# Altium footprint library V2_wearable.PcbLib: 59 footprints (part 1 of 4)
Each footprint in its own frame and in the unit in brackets; x right, y up, seen from the top. Pads: shape width x height; smd on the part's side, far side on the other; paste and mask are expansions set on the pad; w line width, h text height; cw(c..) or ccw(c..) is an arc to the next point about the centre after c.
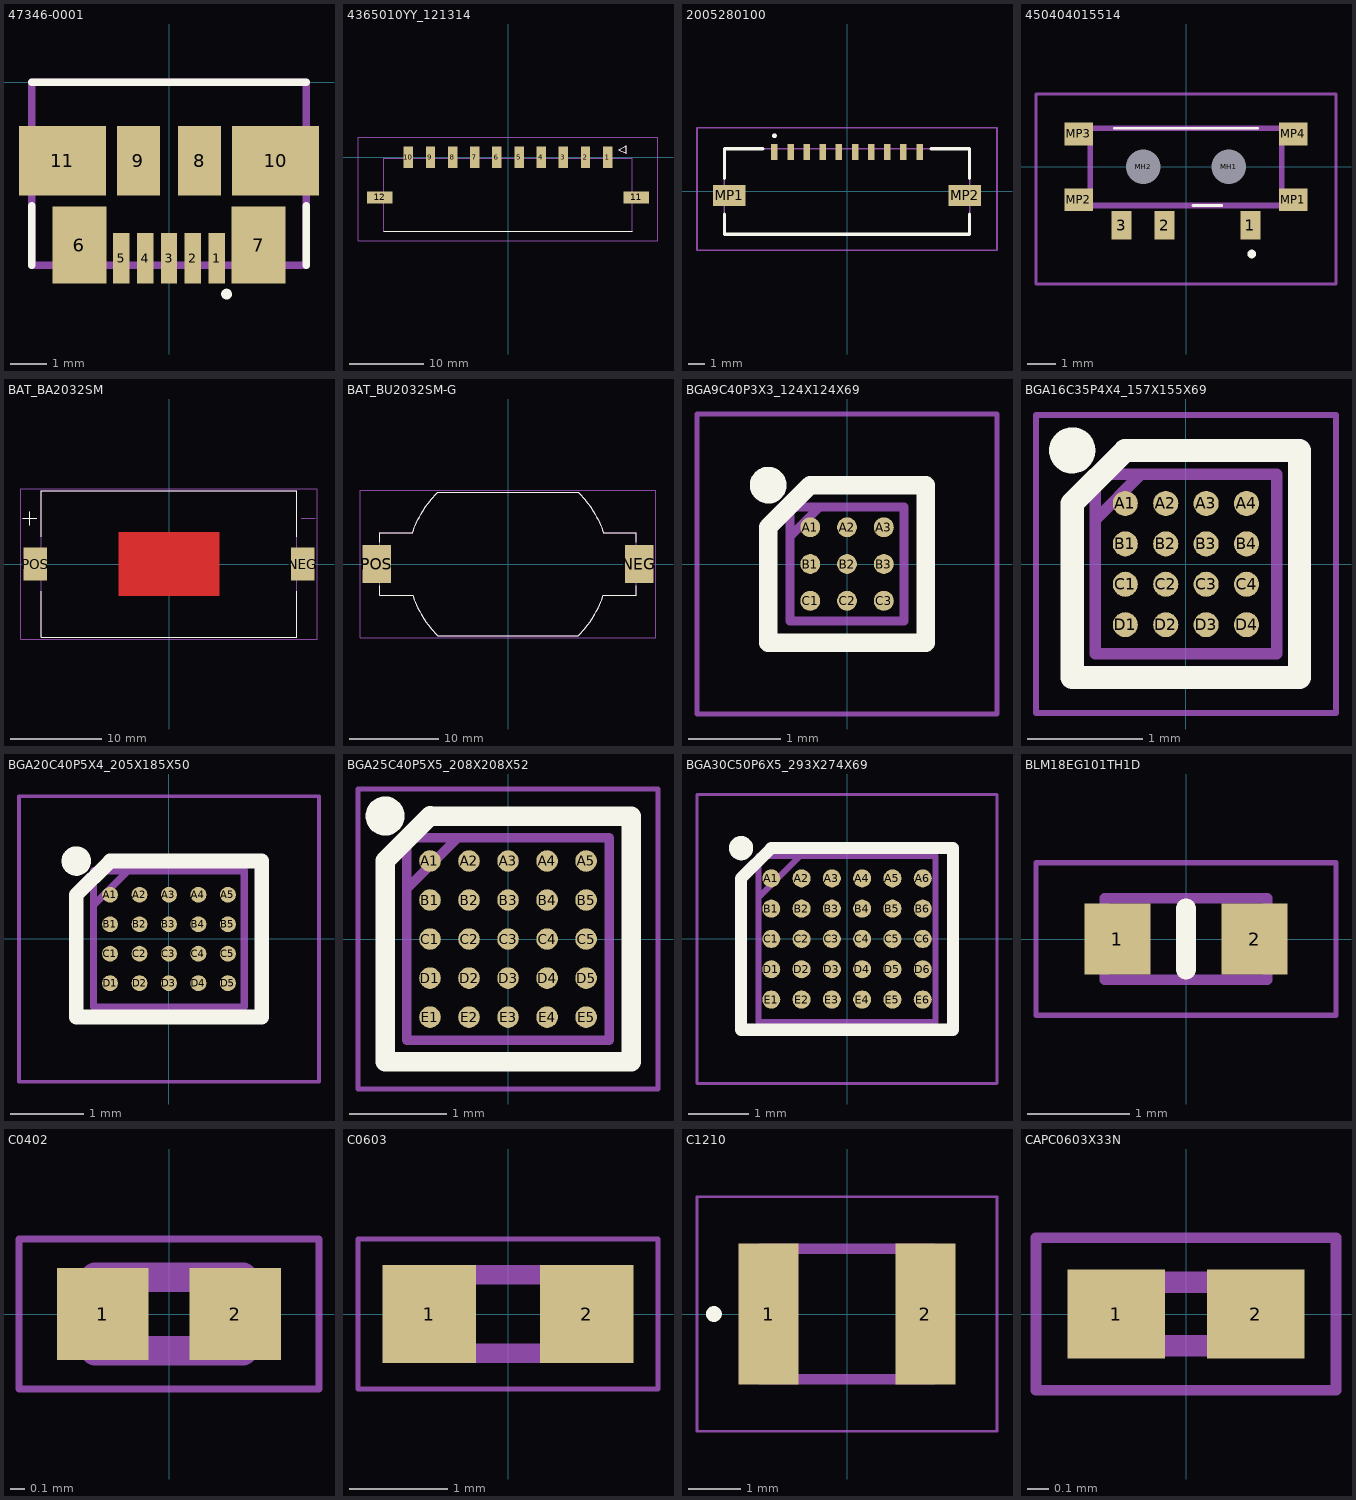
[diagram p0: the footprints below, top view; thin cyan lines are the x and y axes]

## 47346-0001 [mm]
pads (11):
  rect 0.45x1.38 smd: 1(1.3,-4.81) 2(0.65,-4.81) 3(0,-4.81) 4(-0.65,-4.81) 5(-1.3,-4.81)
  rect 1.475x2.1 smd: 6(-2.452,-4.45) 7(2.452,-4.45)
  rect 1.175x1.9 smd: 8(0.837,-2.15) 9(-0.837,-2.15)
  rect 2.375x1.9 smd: 10(2.913,-2.15) 11(-2.913,-2.15)
Top Overlay:
  circle w0.2: c1.572,-5.79 r0.046
  lines w0.2: -3.75,-5 -3.75,-3.373 ; -3.75,0 3.75,0 ; 3.75,-5 3.75,-3.373
Mechanical 13:
  lines w0.2: -3.75,-5 -3.75,0 3.75,0 3.75,-5 -3.75,-5
3D body "47346-0001.stp": height 2.7, standoff -0.24, extent -3.99,-5.38 3.99,0.05

## 4365010YY_121314 [mm]
pads (12):
  rect 1.27x2.92 smd: 1(13.5,0) 2(10.5,0) 3(7.5,0) 4(4.5,0) 5(1.5,0) 6(-1.5,0) 7(-4.5,0) 8(-7.5,0) 9(-10.5,0) 10(-13.5,0)
  rect 3.43x1.65 smd: 11(17.385,-5.47) 12(-17.385,-5.47)
Top Overlay:
  lines w0.127: -16.825,-10.07 16.825,-10.07 ; 15,1 16,1.5 16,0.5 15,1
Mechanical 13:
  lines w0.127: -16.825,-10.07 -16.825,-0.17 16.825,-0.17 16.825,-10.07 -16.825,-10.07 ; 15,1 16,1.5 16,0.5 15,1
Mechanical 15:
  lines w0.05: -20.319,-11.34 20.319,-11.34 20.319,2.679 -20.319,2.679 -20.319,-11.34
3D body "436501013.stp": height 5.67, standoff 0, extent -18.83,-9.68 18.83,1.018

## 2005280100 [mm]
pads (12):
  rect 0.4x1 smd: 1(-4.5,2.45) 2(-3.5,2.45) 3(-2.5,2.45) 4(-1.5,2.45) 5(-0.5,2.45) 6(0.5,2.45) 7(1.5,2.45) 8(2.5,2.45) 9(3.5,2.45) 10(4.5,2.45)
  rect 2x1.3 smd: MP1(-7.3,-0.25) MP2(7.3,-0.25)
Top Overlay:
  lines w0.2: -7.6,-1.4 -7.6,-2.65 7.6,-2.65 7.6,-1.4 ; -7.6,0.8 -7.6,2.65 -5.2,2.65 ; 5.2,2.65 7.6,2.65 7.6,0.8 ; -4.5,3.4 cw(c-4.5,3.45) -4.5,3.5 ; -4.5,3.4 ccw(c-4.5,3.45) -4.5,3.5 ; -4.5,3.4 cw(c-4.5,3.45) -4.5,3.5
Mechanical 13:
  lines w0.1: -7.6,-2.65 7.6,-2.65 7.6,2.65 -7.6,2.65 -7.6,-2.65
Mechanical 15:
  lines w0.1: -9.3,-3.65 9.3,-3.65 9.3,3.95 -9.3,3.95 -9.3,-3.65
3D body "200528-0100.stp": height 1.9, standoff 0, extent -8,-2.5 8,2.8

## 450404015514 [mm]
pads (9):
  rect 0.7x1 smd: 1(2.25,-2.05) 2(-0.75,-2.05) 3(-2.25,-2.05)
  round 0.6 hole 1.2 unplated: MH1(1.5,0) MH2(-1.5,0)
  rect 1x0.8 smd: MP1(3.75,-1.15) MP2(-3.75,-1.15) MP3(-3.75,1.15) MP4(3.75,1.15)
Top Overlay:
  lines w0.1: -2.5,1.35 2.5,1.35 -2.5,1.35 ; 0.25,-1.35 1.25,-1.35 0.25,-1.35
  lines w0.2: 2.3,-3.1 cw(c2.3,-3.05) 2.3,-3 ; 2.3,-3.1 ccw(c2.3,-3.05) 2.3,-3 ; 2.3,-3.1 cw(c2.3,-3.05) 2.3,-3
Mechanical 13:
  lines w0.2: -3.35,-1.35 -3.35,1.35 3.35,1.35 3.35,-1.35 -3.35,-1.35
Mechanical 15:
  lines w0.1: -5.25,-4.1 -5.25,2.55 5.25,2.55 5.25,-4.1 -5.25,-4.1
3D body "450404015514.stp": height 1.4, standoff -0.5, extent -3.85,-2.25 3.85,2.88

## BAT_BA2032SM [mm]
pads (2):
  rect 2.6x3.56 smd: NEG(14.65,0) POS(-14.65,0)
Top Layer:
  region: 5.5,-3.5 -5.5,-3.5 -5.5,3.5 5.5,3.5
Top Overlay:
  lines w0.127: -16,5 -14.5,5 ; -15.25,4.25 -15.25,5.75 ; -14,-3 -14,-8 14,-8 14,-3 ; -14,3 -14,8 14,8 14,3
Top Solder:
  region: 5.6,-3.6 -5.6,-3.6 -5.6,3.6 5.6,3.6
Mechanical 13:
  lines w0.127: -16,5 -14.5,5 ; -15.25,4.25 -15.25,5.75 ; 14.5,5 16,5 ; -14,-8 -14,8 14,8 14,-8 -14,-8
Mechanical 15:
  lines w0.05: -16.25,-8.25 -16.25,8.25 16.25,8.25 16.25,-8.25 -16.25,-8.25
3D body "BA2032SM.step": height 6.7, standoff 0, extent -15.998,-8 16.002,8

## BAT_BU2032SM-G [mm]
pads (2):
  rect 3.2x4.2 smd: NEG(14.65,0) POS(-14.65,0)
Top Overlay:
  lines w0.127: -14.3,-2.42 -14.3,-3.5 -10.645,-3.5 -10.581,-3.681 -10.458,-4.024 -10.35,-4.287 -10.242,-4.538 -10.058,-4.937 -9.88,-5.282 -9.7,-5.594 -9.524,-5.892 -9.168,-6.436 -8.897,-6.809 -8.516,-7.277 -8.022,-7.82 -7.838,-8 ; -14.3,2.42 -14.3,3.5 -10.645,3.5 -10.581,3.681 -10.458,4.024 -10.35,4.287 -10.242,4.538 -10.058,4.937 -9.88,5.282 -9.7,5.594 -9.524,5.892 -9.168,6.436 -8.897,6.809 -8.516,7.277 -8.022,7.82 -7.838,8 ; -7.835,-8 7.835,-8 ; -7.835,8 7.835,8 ; 7.838,-8 8.022,-7.82 8.516,-7.277 8.897,-6.809 9.168,-6.436 9.524,-5.892 9.7,-5.594 9.88,-5.282 10.058,-4.937 10.242,-4.538 10.35,-4.287 10.458,-4.024 10.581,-3.681 10.645,-3.5 14.3,-3.5 14.3,-2.42 ; 7.838,8 8.022,7.82 8.516,7.277 8.897,6.809 9.168,6.436 9.524,5.892 9.7,5.594 9.88,5.282 10.058,4.937 10.242,4.538 10.35,4.287 10.458,4.024 10.581,3.681 10.645,3.5 14.3,3.5 14.3,2.42
Mechanical 13:
  lines w0.127: -7.838,-8 -8.022,-7.82 -8.516,-7.277 -8.897,-6.809 -9.168,-6.436 -9.524,-5.892 -9.7,-5.594 -9.88,-5.282 -10.058,-4.937 -10.242,-4.538 -10.35,-4.287 -10.458,-4.024 -10.581,-3.681 -10.645,-3.5 -14.3,-3.5 -14.3,3.5 -10.645,3.5 -10.581,3.681 -10.458,4.024 -10.35,4.287 -10.242,4.538 -10.058,4.937 -9.88,5.282 -9.7,5.594 -9.524,5.892 -9.168,6.436 -8.897,6.809 -8.516,7.277 -8.022,7.82 -7.838,8 ; -7.835,-8 7.835,-8 ; -7.835,8 7.835,8 ; 7.838,-8 8.022,-7.82 8.516,-7.277 8.897,-6.809 9.168,-6.436 9.524,-5.892 9.7,-5.594 9.88,-5.282 10.058,-4.937 10.242,-4.538 10.35,-4.287 10.458,-4.024 10.581,-3.681 10.645,-3.5 14.3,-3.5 14.3,3.5 10.645,3.5 10.581,3.681 10.458,4.024 10.35,4.287 10.242,4.538 10.058,4.937 9.88,5.282 9.7,5.594 9.524,5.892 9.168,6.436 8.897,6.809 8.516,7.277 8.022,7.82 7.838,8
Mechanical 15:
  lines w0.05: -16.5,-8.25 16.5,-8.25 16.5,8.25 -16.5,8.25 -16.5,-8.25
3D body "BU2032SM-G.step": height 5.2, standoff 0, extent -15.8,-8.001 15.8,7.999

## BGA9C40P3X3_124X124X69 [mm]
pads (9):
  round 0.216 smd: A1(-0.4,0.4) A2(0,0.4) A3(0.4,0.4) B1(-0.4,0) B2(0,0) B3(0.4,0) C1(-0.4,-0.4) C2(0,-0.4) C3(0.4,-0.4)
Top Overlay:
  circle w0.2: c-0.858,0.858 r0.1
  lines w0.2: -0.858,-0.858 0.858,-0.858 0.858,0.858 -0.4,0.858 -0.858,0.4 -0.858,-0.858
Mechanical 13:
  lines w0.1: -0.619,0.303 -0.303,0.619 ; -0.619,-0.619 0.619,-0.619 0.619,0.619 -0.619,0.619 -0.619,-0.619
Mechanical 15:
  lines w0.05: -1.632,-1.631 1.631,-1.631 1.631,1.632 -1.632,1.632 -1.632,-1.631
3D body "MAX14689EWL+T.stp": height 0.69, standoff 0, extent -0.619,-0.619 0.619,0.619

## BGA16C35P4X4_157X155X69 [mm]
pads (16):
  round 0.217 smd: A1(-0.525,0.525) A2(-0.175,0.525) A3(0.175,0.525) A4(0.525,0.525) B1(-0.525,0.175) B2(-0.175,0.175) B3(0.175,0.175) B4(0.525,0.175) C1(-0.525,-0.175) C2(-0.175,-0.175) C3(0.175,-0.175) C4(0.525,-0.175) D1(-0.525,-0.525) D2(-0.175,-0.525) D3(0.175,-0.525) D4(0.525,-0.525)
Top Overlay:
  circle w0.2: c-0.984,0.984 r0.1
  lines w0.2: -0.526,0.983 -0.984,0.525 -0.984,-0.983 0.983,-0.983 0.983,0.984 -0.525,0.984
Mechanical 13:
  lines w0.1: -0.786,0.382 -0.391,0.777 ; -0.786,-0.777 -0.786,0.777 0.786,0.777 0.786,-0.777 -0.786,-0.777
Mechanical 15:
  lines w0.05: -1.298,-1.289 -1.298,1.29 1.299,1.29 1.299,-1.289 -1.298,-1.289
3D body "MAX32660GWE+.stp": height 0.69, standoff 0, extent -0.786,-0.777 0.786,0.777

## BGA20C40P5X4_205X185X50 [mm]
pads (20):
  round 0.216 smd: A1(-0.8,0.6) A2(-0.4,0.6) A3(0,0.6) A4(0.4,0.6) A5(0.8,0.6) B1(-0.8,0.2) B2(-0.4,0.2) B3(0,0.2) B4(0.4,0.2) B5(0.8,0.2) C1(-0.8,-0.2) C2(-0.4,-0.2) C3(0,-0.2) C4(0.4,-0.2) C5(0.8,-0.2) D1(-0.8,-0.6) D2(-0.4,-0.6) D3(0,-0.6) D4(0.4,-0.6) D5(0.8,-0.6)
Top Overlay:
  circle w0.2: c-1.258,1.058 r0.1
  lines w0.2: -1.258,-1.058 -1.258,0.6 -0.8,1.058 1.258,1.058 1.258,-1.058 -1.258,-1.058
Mechanical 13:
  lines w0.1: -1.024,0.456 -0.556,0.924 ; -1.024,-0.924 -1.024,0.924 1.024,0.924 1.024,-0.924 -1.024,-0.924
Mechanical 15:
  lines w0.05: -2.036,-1.937 -2.036,1.936 2.037,1.936 2.037,-1.937 -2.036,-1.937
3D body "MAX86140ENP+.stp": height 0.5, standoff 0, extent -1.024,-0.924 1.024,0.924

## BGA25C40P5X5_208X208X52 [mm]
pads (25):
  round 0.221 smd: A1(-0.8,0.8) A2(-0.4,0.8) A3(0,0.8) A4(0.4,0.8) A5(0.8,0.8) B1(-0.8,0.4) B2(-0.4,0.4) B3(0,0.4) B4(0.4,0.4) B5(0.8,0.4) C1(-0.8,0) C2(-0.4,0) C3(0,0) C4(0.4,0) C5(0.8,0) D1(-0.8,-0.4) D2(-0.4,-0.4) D3(0,-0.4) D4(0.4,-0.4) D5(0.8,-0.4) E1(-0.8,-0.8) E2(-0.4,-0.8) E3(0,-0.8) E4(0.4,-0.8) E5(0.8,-0.8)
Top Overlay:
  circle w0.2: c-1.261,1.261 r0.1
  lines w0.2: -0.8,1.261 1.261,1.261 1.261,-1.26 -1.26,-1.26 -1.26,0.801 -0.799,1.262
Mechanical 13:
  lines w0.1: -1.038,0.519 -0.519,1.038 ; -1.038,-1.037 -1.038,1.038 1.037,1.038 1.037,-1.037 -1.038,-1.037
Mechanical 15:
  lines w0.05: -1.538,-1.537 -1.538,1.538 1.537,1.538 1.537,-1.537 -1.538,-1.537
3D body "nPM1100-CAAA-E-R7.stp": height 0.52, standoff 0, extent -1.038,-1.038 1.038,1.038

## BGA30C50P6X5_293X274X69 [mm]
pads (30):
  round 0.298 smd: A1(-1.25,1) A2(-0.75,1) A3(-0.25,1) A4(0.25,1) A5(0.75,1) A6(1.25,1) B1(-1.25,0.5) B2(-0.75,0.5) B3(-0.25,0.5) B4(0.25,0.5) B5(0.75,0.5) B6(1.25,0.5) C1(-1.25,0) C2(-0.75,0) C3(-0.25,0) C4(0.25,0) C5(0.75,0) C6(1.25,0) D1(-1.25,-0.5) D2(-0.75,-0.5) D3(-0.25,-0.5) D4(0.25,-0.5) D5(0.75,-0.5) D6(1.25,-0.5) E1(-1.25,-1) E2(-0.75,-1) E3(-0.25,-1) E4(0.25,-1) E5(0.75,-1) E6(1.25,-1)
Top Overlay:
  circle w0.2: c-1.749,1.499 r0.1
  lines w0.2: -1.749,-1.499 -1.749,1 -1.25,1.499 1.749,1.499 1.749,-1.499 -1.749,-1.499
Mechanical 13:
  lines w0.1: -1.463,0.679 -0.772,1.37 ; -1.463,-1.37 -1.463,1.37 1.463,1.37 1.463,-1.37 -1.463,-1.37
Mechanical 15:
  lines w0.05: -2.476,-2.383 -2.476,2.382 2.475,2.382 2.475,-2.383 -2.476,-2.383
3D body "MAX30001CWV+.stp": height 0.69, standoff 0, extent -1.463,-1.37 1.463,1.37

## BLM18EG101TH1D [mm]
pads (2):
  rect 0.65x0.7 smd: 1(-0.675,0) 2(0.675,0)
Top Overlay:
  lines w0.2: 0,-0.3 0,0.3
Mechanical 13:
  lines w0.1: -0.8,-0.4 -0.8,0.4 0.8,0.4 0.8,-0.4 -0.8,-0.4
Mechanical 15:
  lines w0.05: -1.475,-0.75 -1.475,0.75 1.475,0.75 1.475,-0.75 -1.475,-0.75
3D body "BLM18EG101TZ1D.stp": height 0.5, standoff 0, extent -0.8,-0.4 0.8,0.4

## C0402 [mm]
pads (2):
  rect 0.62x0.62 smd: 1(-0.45,0) 2(0.45,0)
Mechanical 13:
  lines w0.2: -0.5,-0.25 0.5,-0.25 0.5,0.25 -0.5,0.25 -0.5,-0.25
Mechanical 15:
  lines w0.05: -1.016,-0.508 1.016,-0.508 1.016,0.508 -1.016,0.508 -1.016,-0.508
3D body "C0402C102J1GEC7411.stp": height 0.55, standoff 0, extent -0.52,-0.28 0.53,0.27

## C0603 [mm]
pads (2):
  rect 0.95x1 smd: 1(-0.8,0) 2(0.8,0)
Mechanical 13:
  lines w0.2: -0.8,-0.4 -0.8,0.4 0.8,0.4 0.8,-0.4 -0.8,-0.4
Mechanical 15:
  lines w0.05: -1.524,-0.762 1.524,-0.762 1.524,0.762 -1.524,0.762 -1.524,-0.762
3D body "C0603C202G4HACAUTO.stp": height 0.87, standoff 0, extent -0.87,-0.48 0.88,0.47

## C1210 [mm]
pads (2):
  rect 1.15x2.7 smd: 1(-1.5,0) 2(1.5,0)
Top Overlay:
  circle w0.2: c-2.55,0 r0.05
Mechanical 13:
  lines w0.2: -1.65,-1.25 1.65,-1.25 1.65,1.25 -1.65,1.25 -1.65,-1.25
Mechanical 15:
  lines w0.05: -2.875,-2.25 2.875,-2.25 2.875,2.25 -2.875,2.25 -2.875,-2.25
3D body "C1210C106Z4VACTU.stp": height 1.4, standoff 0, extent -1.7,-1.35 1.7,1.35

## CAPC0603X33N [mm]
pads (2):
  rect 0.46x0.42 smd: 1(-0.33,0) 2(0.33,0)
Mechanical 13:
  lines w0.1: -0.3,-0.15 0.3,-0.15 0.3,0.15 -0.3,0.15 -0.3,-0.15
Mechanical 15:
  lines w0.05: -0.71,-0.36 0.71,-0.36 0.71,0.36 -0.71,0.36 -0.71,-0.36
3D body "GRM0335C1E100JA01D.stp": height 0.33, standoff 0, extent -0.3,-0.15 0.3,0.15